# EAGLE library part MPT6 (library con-phoenix-254)
PHOENIX CONNECTOR
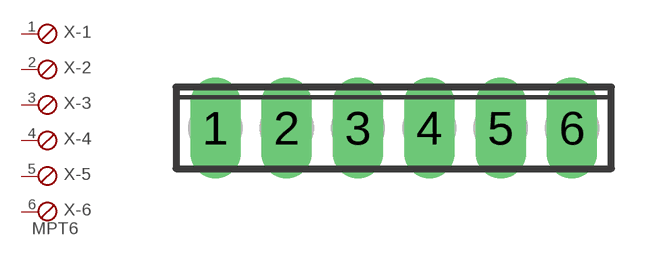
[diagram p0: symbol with the pads of 6POL254; footprint 6POL254]

Designator prefix X; gates -1=SKB -2=SKB -3=SKB -4=SKB -5=SKB -6=SKBV

## MPT6 (OC_FARNELL: unknown; OC_NEWARK: unknown)  [6POL254]
1  -1:1  pas
2  -2:1  pas
3  -3:1  pas
4  -4:1  pas
5  -5:1  pas
6  -6:1  pas

## Footprint 6POL254 (pad centres in mm)
PHOENIX CONNECTOR
drill 1.2 pad 1.778 long: 1 -6.35,0; 2 -3.81,0; 3 -1.27,0; 4 1.27,0; 5 3.81,0; 6 6.35,0